# Altium schematic symbol library connectors.SchLib: 31 symbols
Pins are listed as number, name and electrical type; pins without a type are passive.

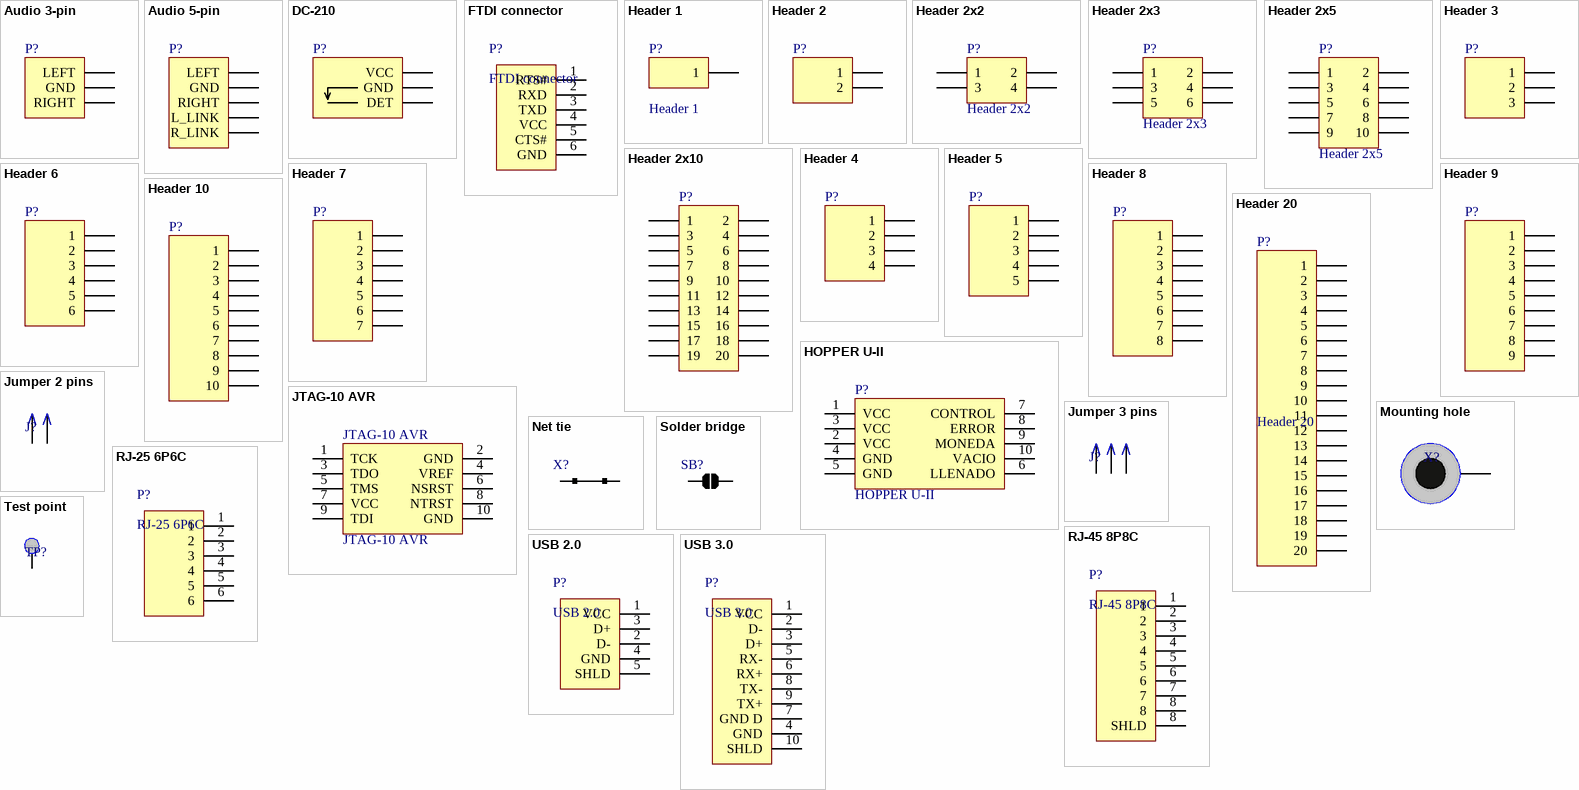
[diagram p0: symbols Audio 3-pin to USB 3.0]

## Audio 3-pin
designator P?
Header, 3-Pin; LatestRevisionDate: 17-Jul-2002; LatestRevisionNote: Re-released for DXP Platform.; Publisher: Altium Limited
footprint ST-111
pins: 1 GND, 2 LEFT, 3 RIGHT

## Audio 5-pin
designator P?
Header, 3-Pin; LatestRevisionDate: 17-Jul-2002; LatestRevisionNote: Re-released for DXP Platform.; Publisher: Altium Limited
footprint ST-214
pins: 1 GND, 2 LEFT, 3 RIGHT, 4 L_LINK, 5 R_LINK

## DC-210
designator P?
Power connector 3.5mm; LatestRevisionDate: 17-Jul-2002; LatestRevisionNote: Re-released for DXP Platform.; Publisher: Altium Limited
footprint DC-210 (Pitch 2.54)
pins: 1 VCC, 2 GND, 3 DET

## FTDI connector
designator P?
footprint PLS-6 2.54 (Pitch 2.54)
pins: 1 RTS#, 2 RXD, 3 TXD, 4 VCC, 5 CTS#, 6 GND

## Header 1
designator P?
Header, 1-Pin; LatestRevisionDate: 17-Jul-2002; LatestRevisionNote: Re-released for DXP Platform.; Publisher: Altium Limited
footprint WIRE_SMD_5X5
footprint WIRE_SMD_10X10
pins: 1

## Header 2
designator P?
Header, 2-Pin; LatestRevisionDate: 17-Jul-2002; LatestRevisionNote: Re-released for DXP Platform.; Publisher: Altium Limited
footprint ECH381R-02P
footprint HDR_SMD_1X2_1.50 (Pitch 1.50)
footprint PBS-2 2.54 (Pitch 2.54)
footprint PLS-2 2.54 (Pitch 2.54)
footprint PLS-2 2.54 OUTLINE (Pitch 2.54)
footprint CWF-2 (Pitch 2.50)
footprint CWF-2R (Pitch 2.50)
footprint PLS-2R 2.54 (Pitch 2.54)
pins: 1, 2

## Header 2x2
designator P?
Header, 2-Pin; LatestRevisionDate: 17-Jul-2002; LatestRevisionNote: Re-released for DXP Platform.; Publisher: Altium Limited
footprint PLD-4 2.54 OUTLINE (Pitch 2.54)
footprint PLD-2 2.54 (Pitch 2.54)
pins: 1, 2, 3, 4

## Header 2x3
designator P?
Header, 2x3-Pin; LatestRevisionDate: 17-Jul-2002; LatestRevisionNote: Re-released for DXP Platform.; Publisher: Altium Limited
footprint DS1073-01-2x3
footprint PLD-3 2.54 (Pitch 2.54)
pins: 1, 2, 3, 4, 5, 6

## Header 2x5
designator P?
Header, 2x5-Pin; LatestRevisionDate: 17-Jul-2002; LatestRevisionNote: Re-released for DXP Platform.; Publisher: Altium Limited
footprint PLD-10 2.54 OUTLINE (Pitch 2.54)
footprint IDC-10 (IDC)
pins: 1, 2, 3, 4, 5, 6, 7, 8, 9, 10

## Header 2x10
designator P?
Header, 2x10-Pin; LatestRevisionDate: 17-Jul-2002; LatestRevisionNote: Re-released for DXP Platform.; Publisher: Altium Limited
footprint PLD-20 2.54 (Pitch 2.54)
footprint PLD-20 2.54 OUTLINE (Pitch 2.54)
footprint PBD-20 2.54 (Pitch 2.54)
footprint IDC-20 (IDC 20 pin)
footprint PBD-20 2.00 (Pitch 2.00)
footprint PBD-20 2.00 OUTLINE (Pitch 2.00)
footprint IDC-20 OUTLINE (IDC 20 pin)
pins: 1, 2, 3, 4, 5, 6, 7, 8, 9, 10, 11, 12, 13, 14, 15, 16, 17, 18, 19, 20

## Header 3
designator P?
Header, 3-Pin; LatestRevisionDate: 17-Jul-2002; LatestRevisionNote: Re-released for DXP Platform.; Publisher: Altium Limited
footprint HDR_SMD_1X3_1.50 (Pitch 1.50)
footprint PBS-3 2.54 (Pitch 2.54)
footprint PLS-3 2.54 (Pitch 2.54)
footprint PLS-3 2.54 OUTLINE (Pitch 2.54)
footprint CWF-3R (Pitch 2.50)
footprint CWF-3 (Pitch 2.50)
footprint PLS-3R 2.54 (Pitch 2.54)
pins: 1, 2, 3

## Header 4
designator P?
Header, 4-Pin; LatestRevisionDate: 17-Jul-2002; LatestRevisionNote: Re-released for DXP Platform.; Publisher: Altium Limited
footprint HDR_SMD_1X4_1.50 (Pitch 1.50)
footprint PBS-4 2.54 (Pitch 2.54)
footprint PLS-4 2.54 (Pitch 2.54)
footprint CWF-4 (Pitch 2.50)
footprint CWF-4R (Pitch 2.50)
footprint PLS-4R 2.54 (Pitch 2.54)
pins: 1, 2, 3, 4

## Header 5
designator P?
Header, 5-Pin; LatestRevisionDate: 17-Jul-2002; LatestRevisionNote: Re-released for DXP Platform.; Publisher: Altium Limited
footprint HDR_SMD_1x5_1.50 (Pitch 1.50)
footprint PBS-5 2.54 (Pitch 2.54)
footprint PLS-5 2.54 (Pitch 2.54)
footprint PLS-5 2.54 OUTLINE (Pitch 2.54)
footprint CWF-5 (Pitch 2.50)
footprint CWF-5R (Pitch 2.50)
footprint PLS-5R 2.54 (Pitch 2.54)
pins: 1, 2, 3, 4, 5

## Header 6
designator P?
Header, 6-Pin; LatestRevisionDate: 17-Jul-2002; LatestRevisionNote: Re-released for DXP Platform.; Publisher: Altium Limited
footprint PBS-6 2.54 (Pitch 2.54)
footprint PLS-6 2.54 (Pitch 2.54)
footprint CWF-6 (Pitch 2.50)
footprint CWF-6R (Pitch 2.50)
footprint PLS-6R 2.54 (Pitch 2.54)
pins: 1, 2, 3, 4, 5, 6

## Header 7
designator P?
Header, 7-Pin; LatestRevisionDate: 17-Jul-2002; LatestRevisionNote: Re-released for DXP Platform.; Publisher: Altium Limited
footprint PBS-7 2.54 (Pitch 2.54)
footprint PLS-7 2.54 (Pitch 2.54)
footprint CWF-7 (Pitch 2.50)
footprint CWF-7R (Pitch 2.50)
footprint PLS-7R 2.54 (Pitch 2.54)
pins: 1, 2, 3, 4, 5, 6, 7

## Header 8
designator P?
Header, 8-Pin; LatestRevisionDate: 17-Jul-2002; LatestRevisionNote: Re-released for DXP Platform.; Publisher: Altium Limited
footprint PBS-8 2.54 (Pitch 2.54)
footprint PLS-8 2.54 (Pitch 2.54)
footprint CWF-8 (Pitch 2.50)
footprint CWF-8R (Pitch 2.50)
footprint PLS-8R 2.54 (Pitch 2.54)
pins: 1, 2, 3, 4, 5, 6, 7, 8

## Header 9
designator P?
Header, 8-Pin; LatestRevisionDate: 17-Jul-2002; LatestRevisionNote: Re-released for DXP Platform.; Publisher: Altium Limited
footprint PBS-9 2.54 (Pitch 2.54)
footprint PLS-9 2.54 (Pitch 2.54)
footprint CWF-9 (Pitch 2.50)
footprint CWF-9R (Pitch 2.50)
footprint PLS-9R 2.54 (Pitch 2.54)
pins: 1, 2, 3, 4, 5, 6, 7, 8, 9

## Header 10
designator P?
Header, 10-Pin; LatestRevisionDate: 17-Jul-2002; LatestRevisionNote: Re-released for DXP Platform.; Publisher: Altium Limited
footprint PBS-10 2.54 (Pitch 2.54)
footprint PLS-10 2.54 (Pitch 2.54)
footprint CWF-10 (Pitch 2.50)
footprint CWF-10R (Pitch 2.50)
footprint PLS-10R 2.54 (Pitch 2.54)
pins: 1, 2, 3, 4, 5, 6, 7, 8, 9, 10

## Header 20
designator P?
Header, 20-Pin; LatestRevisionDate: 17-Jul-2002; LatestRevisionNote: Re-released for DXP Platform.; Publisher: Altium Limited
footprint PBS-20 2.54 (Pitch 2.54)
footprint PLS-20 2.54 (Pitch 2.54)
footprint PLS-20 2.54 (Pitch 2.54)
pins: 1, 2, 3, 4, 5, 6, 7, 8, 9, 10, 11, 12, 13, 14, 15, 16, 17, 18, 19, 20

## HOPPER U-II
designator P?
Hopper U-II connector; LatestRevisionDate: 17-Jul-2002; LatestRevisionNote: Re-released for DXP Platform.; Publisher: Altium Limited
footprint IDC-10 (IDC)
pins: 1 VCC, 2 VCC, 3 VCC, 4 GND, 5 GND, 6 LLENADO, 7 CONTROL, 8 ERROR, 9 MONEDA, 10 VACIO

## JTAG-10 AVR
designator JTAG-10 AVR
JTAG 10 pin; LatestRevisionDate: 17-Jul-2002; LatestRevisionNote: Re-released for DXP Platform.; Publisher: Altium Limited
footprint IDC-10 (IDC)
pins: 1 TCK, 2 GND, 3 TDO, 4 VREF, 5 TMS, 6 NSRST, 7 VCC, 8 NTRST, 9 TDI, 10 GND

## Jumper 2 pins
designator J?
Jumper 2 pins
footprint HDR_SMD_1X2_1.50 (Pitch 1.50)
footprint PLS-2 2.54 (Pitch 2.54)
pins: 1, 2

## Jumper 3 pins
designator J?
Jumper 3 pins
footprint HDR_SMD_1X3_1.50 (Pitch 1.50)
footprint PLS-3 2.54 (Pitch 2.54)
pins: 1, 2, 3

## Mounting hole
designator X?  (no BOM)
footprint HOLE_M2_D4.0/2.5
footprint HOLE_M3_D6.0/3.5
footprint HOLE_M4_D8.0/4.5
pins: 1

## Net tie
designator X?  (net tie, no BOM)
Net tie
footprint NET_TIE_0.4 (Net tie, 0.4mm width)
footprint NET_TIE_0.8 (Net tie, 0.8mm width)
footprint NET_TIE_1.0 (Net tie, 0.8mm width)
footprint NET_TIE_5.0 (Net tie, 5mm width)
pins: 1, 2

## RJ-25 6P6C
designator P?
footprint RJ-25 6P6C (RJ-25)
footprint RJ-25 6P6C VERT (RJ-25)
pins: 1, 2, 3, 4, 5, 6

## RJ-45 8P8C
designator P?
footprint RJ-45 8P8C (RJ-45)
pins: 1, 2, 3, 4, 5, 6, 7, 8, 8 SHLD

## Solder bridge
designator SB?  (no BOM)
Solder bridge
footprint SOLDER_BRIDGE (Solder bridge)
pins: 1, 2

## Test point
designator TP?  (no BOM)
Test point
footprint TP_SMD_D1.00 (SMD test point, 1.0 mm diameter)
footprint TP_SMD_D1.50 (SMD test point, 1.50 mm diameter)
pins: 1

## USB 2.0
designator P?
footprint USB-B 2.0
footprint USB-A 2.0
pins: 1 VCC, 2 D-, 3 D+, 4 GND, 5 SHLD

## USB 3.0
designator P?
footprint USB-A 3.0
pins: 1 VCC, 2 D-, 3 D+, 4 GND, 5 RX-, 6 RX+, 7 GND D, 8 TX-, 9 TX+, 10 SHLD